# Altium schematic symbol library irfp250n.SchLib: 1 symbol
Pins are listed as number, name and electrical type; pins without a type are passive.

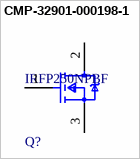
[diagram p0: symbol CMP-32901-000198-1]

## CMP-32901-000198-1
designator Q?, comment IRFP250NPBF
MOSFET N-CH 200V 30A TO-247AC; Rds On Max: 75mR; Input Capacitance: 2.159nF; Turn-Off Delay Time: 41ns; Max Power Dissipation: 214W; Turn-On Delay Time: 14ns; Gate to Source Voltage (Vgs): 20V; Element Configuration: Single; Case/Package: TO-247; Width: 0.209inch; Max Dual Supply Voltage: 200V; Number of Pins: 3; RoHS Compliant: Yes; Drain to Source Breakdown Voltage: 200V; Length: 0.625inch; Height: 0.799inch; Drain to Source Voltage (Vdss): 200V; Drain to Source Resistance: 75mR; Max Operating Temperature: 175°C; Power Dissipation: 214W; Halogen Free: Not Halogen Free; Lead Free: Lead Free; Mount: Through Hole; Continuous Drain Current (ID): 30A; Packaging: Bulk; Min Operating Temperature: -55°C
footprint FP-PG-TO247-3-MFG
pins: 1 GATE, 2 DRAIN, 3 SOURCE